# EAGLE library part TPS63020DSJR (library proj_biblioteka)
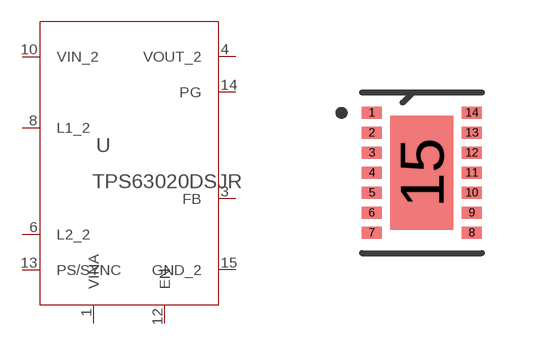
[diagram p2: symbol with the pads of R-PVSON-N14; footprint R-PVSON-N14]

Designator prefix -

## TPS63020DSJR (MANUFACTURER_PART_NUMBER: TPS63020DSJR; VENDOR: Texas Instruments)  [R-PVSON-N14]
1  VINA  pas
3  FB  pas
4  VOUT_2  pas
6  L2_2  pas
8  L1_2  pas
10  VIN_2  pas
12  EN  pas
13  PS/SYNC  pas
14  PG  pas
15  GND_2  pas

## Footprint R-PVSON-N14 (pad centres in mm)
smd 0.5 x 0.3: 1 -1.25,1.5; 2 -1.25,1; 3 -1.25,0.5; 4 -1.25,0; 5 -1.25,-0.5; 6 -1.25,-1; 7 -1.25,-1.5; 8 1.25,-1.5; 9 1.25,-1; 10 1.25,-0.5; 11 1.25,0; 12 1.25,0.5; 13 1.25,1; 14 1.25,1.5
smd 1.58 x 2.85: 15 0,0